# Altium footprint library custom-case.PcbLib: 168 footprints (part 8 of 11)
Each footprint in its own frame and in the unit in brackets; x right, y up, seen from the top. Pads: shape width x height; smd on the part's side, far side on the other; paste and mask are expansions set on the pad; w line width, h text height; cw(c..) or ccw(c..) is an arc to the next point about the centre after c.
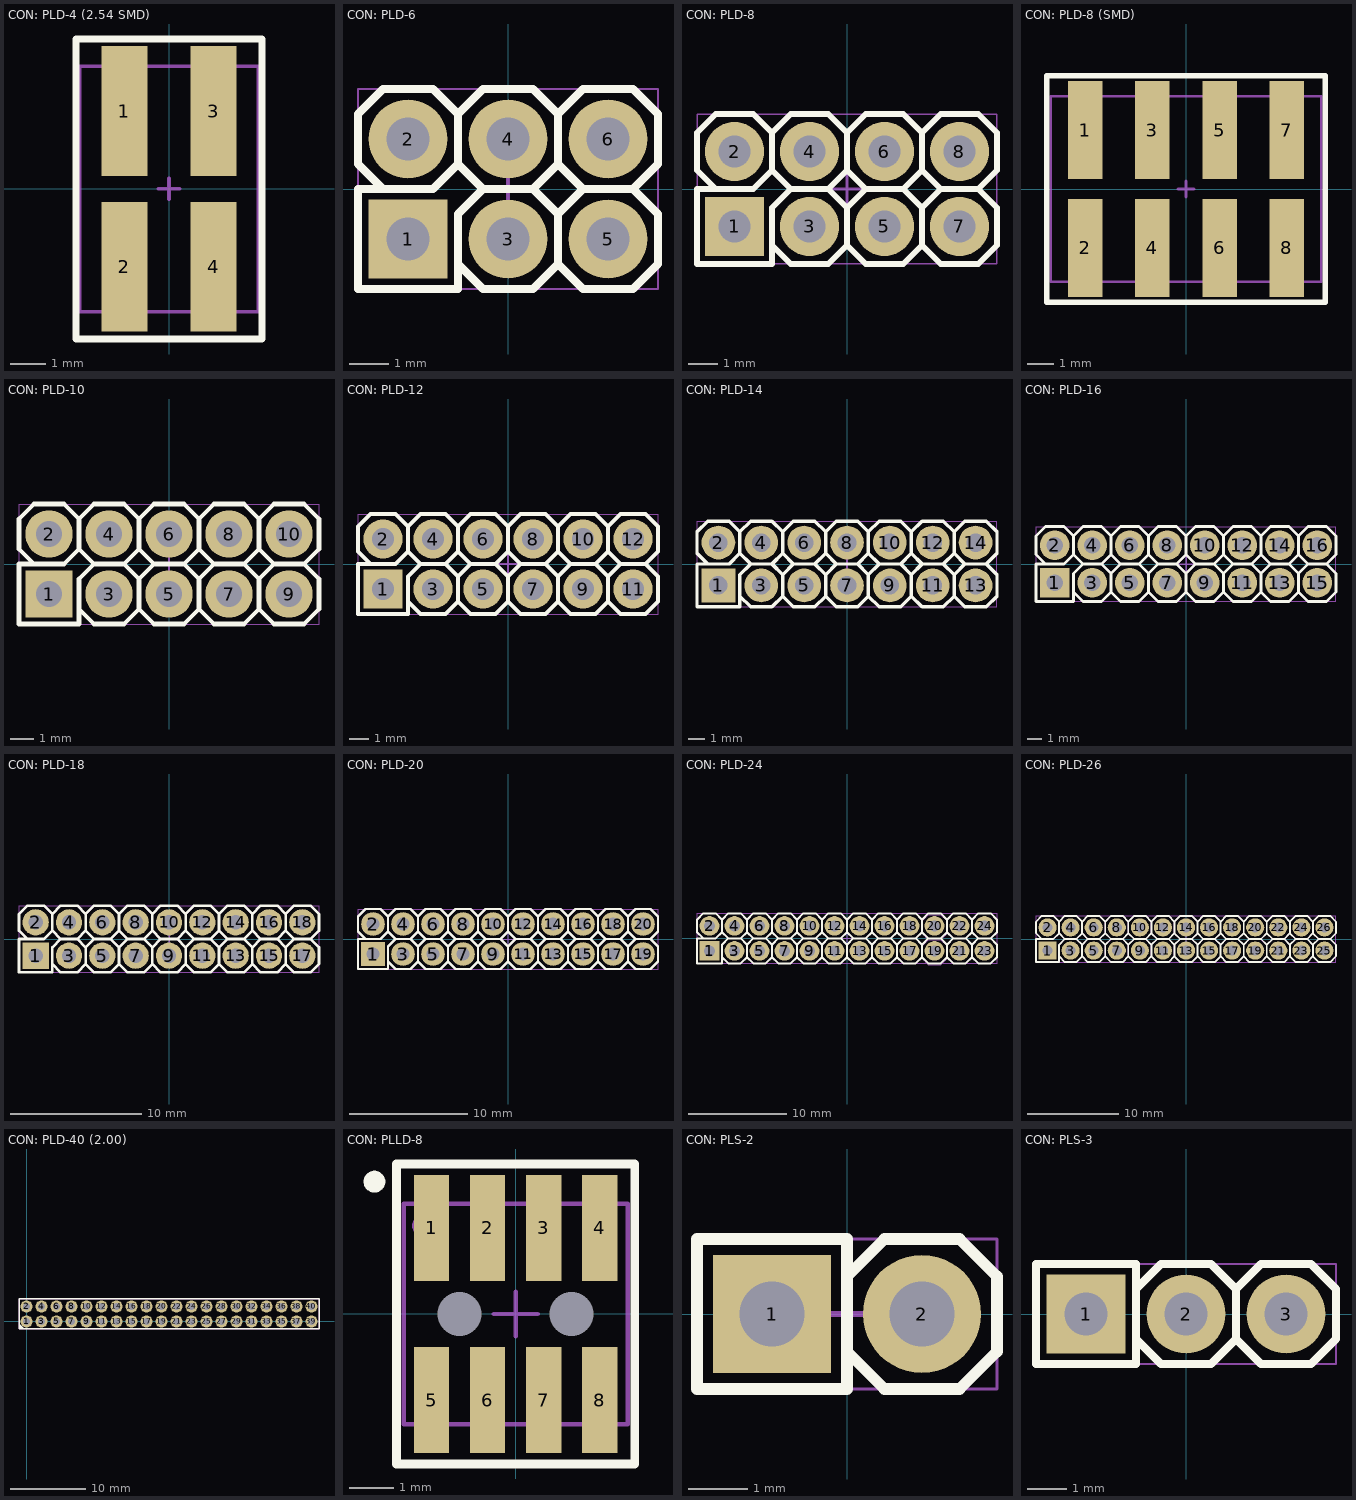
[diagram p7: the footprints below, top view; thin cyan lines are the x and y axes]

## CON: PLD-4 (2.54 SMD) [mm]
pads (4):
  rect 1.3x3.7 smd: 1(-1.27,2.22) 2(-1.27,-2.22) 3(1.27,2.22) 4(1.27,-2.22)
Top Overlay:
  lines w0.2: -2.65,-4.275 2.65,-4.275 2.65,4.275 -2.65,4.275 -2.65,-4.275
Top Assy:
  lines w0.1: -2.55,-3.5 -2.55,3.5 2.55,3.5 2.55,-3.5 -2.55,-3.5
Size Area:
  lines w0.1: -0.3,0 0.3,0 ; 0,-0.3 0,0.3 ; -2.65,-4.278 -2.65,4.275 2.65,4.275 2.65,-4.253 -2.65,-4.278
3D body "015912040-1.STEP": height 9.64, standoff -0.01, extent -2.54,-3.492 2.54,3.493

## CON: PLD-6 [mm]
height 10
pads (6):
  rect 2x2 hole 1.1: 1(-2.54,-1.27)
  round 2 hole 1.1: 2(-2.54,1.27) 3(0,-1.27) 4(0,1.27) 5(2.54,-1.27) 6(2.54,1.27)
Top Overlay:
  lines w0.2: -3.175,0 -3.81,0.635 -3.81,1.905 -3.175,2.54 ; -1.27,-1.905 -0.635,-2.54 0.635,-2.54 1.27,-1.905 ; -3.175,2.54 -1.905,2.54 ; -3.175,2.54 -1.905,2.54 ; -3.175,2.54 -1.905,2.54 ; -1.905,2.54 -1.27,1.905 ; -1.27,0.635 -1.27,1.905 ; -1.27,0.635 -1.905,0 -3.81,0 -3.81,-2.54 -1.27,-2.54 -1.27,-0.635 -0.635,0 ; -1.27,0.635 -0.635,0 ; -1.27,1.905 -0.635,2.54 ; -0.635,0 0.635,0 ; -0.635,2.54 0.635,2.54 ; -0.635,2.54 0.635,2.54 ; 0.635,0 1.27,0.635 ; 0.635,0 1.27,-0.635 ; 0.635,2.54 1.27,1.905 ; 1.27,-1.905 1.905,-2.54 3.175,-2.54 3.81,-1.905 3.81,-0.635 3.175,0 ; 1.27,-1.905 1.27,-0.635 ; 1.27,-0.635 1.905,0 ; 1.27,0.635 1.27,1.905 ; 1.27,0.635 1.905,0 ; 1.27,1.905 1.905,2.54 ; 1.905,0 3.175,0 ; 1.905,2.54 3.175,2.54 ; 1.905,2.54 3.175,2.54 ; 3.175,0 3.81,0.635 3.81,1.905 3.175,2.54
Top Assy:
  lines w0.1: -3.175,0 -3.81,0.635 -3.81,1.905 -3.175,2.54 -1.905,2.54 -1.27,1.905 -0.635,2.54 0.635,2.54 1.27,1.905 ; -1.27,-1.905 -0.635,-2.54 0.635,-2.54 1.27,-1.905 ; -0.635,0 0.635,0 ; -0.635,0 -1.27,0.635 -1.905,0 -3.81,0 -3.81,-2.54 -1.27,-2.54 -1.27,-0.635 -0.635,0 ; 0.635,0 1.27,0.635 ; 0.635,0 1.27,-0.635 ; 1.27,-1.905 1.905,-2.54 3.175,-2.54 3.81,-1.905 3.81,-0.635 3.175,0 ; 1.27,-1.905 1.27,-0.635 ; 1.27,-0.635 1.905,0 ; 1.27,0.635 1.905,0 ; 1.27,0.635 1.27,1.905 ; 1.27,1.905 1.905,2.54 3.175,2.54 3.81,1.905 3.81,0.635 3.175,0 ; 1.905,0 3.175,0
Size Area:
  lines w0.05: -3.81,-2.54 3.81,-2.54 3.81,2.54 -3.81,2.54 -3.81,-2.54
  lines w0.1: -0.5,0 0.5,0 ; 0,-0.5 0,0.5
3D body "PLD-6.STEP": height 8.54, standoff -3, extent -3.81,-2.54 3.81,2.54

## CON: PLD-8 [mm] "PLD-40 8 pin header"
height 10
pads (8):
  rect 2x2 hole 1.1: 1(-3.81,-1.27)
  round 2 hole 1.1: 2(-3.81,1.27) 3(-1.27,-1.27) 4(-1.27,1.27) 5(1.27,-1.27) 6(1.27,1.27) 7(3.81,-1.27) 8(3.81,1.27)
Top Overlay:
  lines w0.2: -4.445,0 -5.08,0.635 -5.08,1.905 -4.445,2.54 ; -2.54,-1.905 -1.905,-2.54 -0.635,-2.54 0,-1.905 ; -4.445,2.54 -3.175,2.54 ; -4.445,2.54 -3.175,2.54 ; -3.175,2.54 -2.54,1.905 ; -2.54,0.635 -1.905,0 ; -2.54,0.635 -3.175,0 -5.08,0 -5.08,-2.54 -2.54,-2.54 -2.54,-0.635 -1.905,0 ; -2.54,0.635 -2.54,1.905 ; -2.54,1.905 -1.905,2.54 ; -1.905,0 -0.635,0 ; -1.905,2.54 -0.635,2.54 ; -1.905,2.54 -0.635,2.54 ; -0.635,0 0,0.635 ; -0.635,0 0,-0.635 ; -0.635,2.54 0,1.905 ; 0,-1.905 0.635,-2.54 1.905,-2.54 2.54,-1.905 ; 0,-1.905 0,-0.635 ; 0,-0.635 0.635,0 ; 0,0.635 0,1.905 ; 0,0.635 0.635,0 ; 0,1.905 0.635,2.54 ; 0.635,0 1.905,0 ; 0.635,2.54 1.905,2.54 ; 0.635,2.54 1.905,2.54 ; 1.905,0 2.54,0.635 ; 1.905,0 2.54,-0.635 ; 1.905,2.54 2.54,1.905 ; 2.54,-1.905 3.175,-2.54 4.445,-2.54 5.08,-1.905 5.08,-0.635 4.445,0 ; 2.54,-1.905 2.54,-0.635 ; 2.54,-0.635 3.175,0 ; 2.54,0.635 2.54,1.905 ; 2.54,0.635 3.175,0 ; 2.54,1.905 3.175,2.54 ; 3.175,0 4.445,0 ; 3.175,2.54 4.445,2.54 ; 3.175,2.54 4.445,2.54 ; 4.445,0 5.08,0.635 5.08,1.905 4.445,2.54
Top Assy:
  lines w0.1: -4.445,0 -5.08,0.635 -5.08,1.905 -4.445,2.54 -3.175,2.54 -2.54,1.905 -1.905,2.54 -0.635,2.54 0,1.905 ; -2.54,-1.905 -1.905,-2.54 -0.635,-2.54 0,-1.905 ; -1.905,0 -2.54,-0.635 -2.54,-2.54 -5.08,-2.54 -5.08,0 -3.175,0 -2.54,0.635 -1.905,0 ; -1.905,0 -0.635,0 ; -0.635,0 0,-0.635 ; -0.635,0 0,0.635 ; 0,-1.905 0.635,-2.54 1.905,-2.54 2.54,-1.905 ; 0,-1.905 0,-0.635 ; 0,-0.635 0.635,0 ; 0,0.635 0.635,0 ; 0,0.635 0,1.905 ; 0,1.905 0.635,2.54 1.905,2.54 2.54,1.905 ; 0.635,0 1.905,0 ; 1.905,0 2.54,-0.635 ; 1.905,0 2.54,0.635 ; 2.54,-1.905 3.175,-2.54 4.445,-2.54 5.08,-1.905 5.08,-0.635 4.445,0 ; 2.54,-1.905 2.54,-0.635 ; 2.54,-0.635 3.175,0 ; 2.54,0.635 3.175,0 ; 2.54,0.635 2.54,1.905 ; 2.54,1.905 3.175,2.54 4.445,2.54 5.08,1.905 5.08,0.635 4.445,0 ; 3.175,0 4.445,0
Size Area:
  lines w0.05: -5.08,-2.54 -5.08,2.54 5.08,2.54 5.08,-2.54 -5.08,-2.54
  lines w0.1: -0.5,0 0.5,0 ; 0,-0.5 0,0.5
3D body "PLD-8.STEP": height 8.54, standoff -3, extent -5.132,-2.546 5.028,2.534

## CON: PLD-8 (SMD) [mm]
pads (8):
  rect 1.3x3.7 smd: 1(-3.81,2.22) 2(-3.81,-2.22) 3(-1.27,2.22) 4(-1.27,-2.22) 5(1.27,2.22) 6(1.27,-2.22) 7(3.81,2.22) 8(3.81,-2.22)
Top Overlay:
  lines w0.2: -5.25,-4.275 5.25,-4.275 5.25,4.275 -5.25,4.275 -5.25,-4.275
3D model:
  lines w0.1: -5.1,-3.5 5.1,-3.5 5.1,3.5 -5.1,3.5 -5.1,-3.5
Size Area:
  lines w0.1: -0.3,0 0.3,0 ; 0,-0.3 0,0.3 ; -5.25,-4.275 5.25,-4.275 5.25,4.275 -5.25,4.275 -5.25,-4.275
3D body "015910080-1.STEP": height 9.64, standoff -0.01, extent -5.08,-3.493 5.08,3.493

## CON: PLD-10 [mm]
height 10
pads (10):
  rect 2x2 hole 1.1: 1(-5.08,-1.27)
  round 2 hole 1.1: 2(-5.08,1.27) 3(-2.54,-1.27) 4(-2.54,1.27) 5(0,-1.27) 6(0,1.27) 7(2.54,-1.27) 8(2.54,1.27) 9(5.08,-1.27) 10(5.08,1.27)
Top Overlay:
  lines w0.2: -5.715,0 -6.35,0.635 -6.35,1.905 -5.715,2.54 ; -3.81,-1.905 -3.175,-2.54 -1.905,-2.54 -1.27,-1.905 ; -5.715,2.54 -4.445,2.54 ; -5.715,2.54 -4.445,2.54 ; -4.445,2.54 -3.81,1.905 ; -3.81,0.635 -3.175,0 ; -3.81,0.635 -4.445,0 -6.35,0 -6.35,-2.54 -3.81,-2.54 -3.81,-0.635 -3.175,0 ; -3.81,0.635 -3.81,1.905 ; -3.81,1.905 -3.175,2.54 ; -3.175,0 -1.905,0 ; -3.175,2.54 -1.905,2.54 ; -3.175,2.54 -1.905,2.54 ; -1.905,0 -1.27,0.635 ; -1.905,0 -1.27,-0.635 ; -1.905,2.54 -1.27,1.905 ; -1.27,-1.905 -1.27,-0.635 ; -1.27,-1.905 -0.635,-2.54 0.635,-2.54 1.27,-1.905 ; -1.27,-0.635 -0.635,0 ; -1.27,0.635 -0.635,0 ; -1.27,0.635 -1.27,1.905 ; -1.27,1.905 -0.635,2.54 ; -0.635,0 0.635,0 ; -0.635,2.54 0.635,2.54 ; -0.635,2.54 0.635,2.54 ; 0.635,0 1.27,0.635 ; 0.635,0 1.27,-0.635 ; 0.635,2.54 1.27,1.905 ; 1.27,-1.905 1.27,-0.635 ; 1.27,-1.905 1.905,-2.54 3.175,-2.54 3.81,-1.905 ; 1.27,-0.635 1.905,0 ; 1.27,0.635 1.905,0 ; 1.27,0.635 1.27,1.905 ; 1.27,1.905 1.905,2.54 ; 1.905,0 3.175,0 ; 1.905,2.54 3.175,2.54 ; 1.905,2.54 3.175,2.54 ; 3.175,0 3.81,0.635 ; 3.175,0 3.81,-0.635 ; 3.175,2.54 3.81,1.905 ; 3.81,-1.905 4.445,-2.54 5.715,-2.54 6.35,-1.905 6.35,-0.635 5.715,0 ; 3.81,-1.905 3.81,-0.635 ; 3.81,-0.635 4.445,0 ; 3.81,0.635 3.81,1.905 ; 3.81,0.635 4.445,0 ; 3.81,1.905 4.445,2.54 ; 4.445,0 5.715,0 ; 4.445,2.54 5.715,2.54 ; 4.445,2.54 5.715,2.54 ; 5.715,0 6.35,0.635 6.35,1.905 5.715,2.54
Top Assy:
  lines w0.1: -5.715,0 -6.35,0.635 -6.35,1.905 -5.715,2.54 -4.445,2.54 -3.81,1.905 -3.175,2.54 -1.905,2.54 -1.27,1.905 ; -3.81,-1.905 -3.175,-2.54 -1.905,-2.54 -1.27,-1.905 ; -3.175,0 -3.81,-0.635 -3.81,-2.54 -6.35,-2.54 -6.35,0 -4.445,0 -3.81,0.635 -3.175,0 ; -3.175,0 -1.905,0 ; -1.905,0 -1.27,-0.635 ; -1.905,0 -1.27,0.635 ; -1.27,-1.905 -1.27,-0.635 ; -1.27,-1.905 -0.635,-2.54 0.635,-2.54 1.27,-1.905 ; -1.27,-0.635 -0.635,0 ; -1.27,0.635 -1.27,1.905 ; -1.27,0.635 -0.635,0 ; -1.27,1.905 -0.635,2.54 0.635,2.54 1.27,1.905 ; -0.635,0 0.635,0 ; 0.635,0 1.27,-0.635 ; 0.635,0 1.27,0.635 ; 1.27,-1.905 1.27,-0.635 ; 1.27,-1.905 1.905,-2.54 3.175,-2.54 3.81,-1.905 ; 1.27,-0.635 1.905,0 ; 1.27,0.635 1.27,1.905 ; 1.27,0.635 1.905,0 ; 1.27,1.905 1.905,2.54 3.175,2.54 3.81,1.905 ; 1.905,0 3.175,0 ; 3.175,0 3.81,-0.635 ; 3.175,0 3.81,0.635 ; 3.81,-1.905 3.81,-0.635 ; 3.81,-1.905 4.445,-2.54 5.715,-2.54 6.35,-1.905 6.35,-0.635 5.715,0 ; 3.81,-0.635 4.445,0 ; 3.81,0.635 3.81,1.905 ; 3.81,0.635 4.445,0 ; 3.81,1.905 4.445,2.54 5.715,2.54 6.35,1.905 6.35,0.635 5.715,0 ; 4.445,0 5.715,0
Size Area:
  lines w0.05: -6.35,-2.54 -6.35,2.54 6.35,2.54 6.35,-2.54 -6.35,-2.54
  lines w0.1: -0.5,0 0.5,0 ; 0,-0.5 0,0.5
3D body "PLD-10.STEP": height 8.54, standoff -3, extent -6.35,-2.54 6.35,2.54

## CON: PLD-12 [mm]
height 10
pads (12):
  rect 2x2 hole 1.1: 1(-6.35,-1.27)
  round 2 hole 1.1: 2(-6.35,1.27) 3(-3.81,-1.27) 4(-3.81,1.27) 5(-1.27,-1.27) 6(-1.27,1.27) 7(1.27,-1.27) 8(1.27,1.27) 9(3.81,-1.27) 10(3.81,1.27) 11(6.35,-1.27) 12(6.35,1.27)
Top Overlay:
  lines w0.2: -5.08,-1.905 -4.445,-2.54 -3.175,-2.54 -2.54,-1.905 ; -7.62,0.635 -6.985,0 -7.62,0.635 ; -7.62,0.635 -7.62,1.905 -6.985,2.54 ; -6.985,2.54 -5.715,2.54 ; -6.985,2.54 -5.715,2.54 ; -5.715,0 -5.08,0.635 ; -5.715,0 -7.62,0 -7.62,-2.54 -5.08,-2.54 -5.08,-0.635 -4.445,0 ; -5.715,0 -5.08,0.635 ; -5.715,2.54 -5.08,1.905 ; -5.08,0.635 -4.445,0 ; -5.08,0.635 -5.08,1.905 ; -5.08,0.635 -4.445,0 ; -5.08,1.905 -4.445,2.54 ; -4.445,0 -3.175,0 ; -4.445,2.54 -3.175,2.54 ; -4.445,2.54 -3.175,2.54 ; -3.175,0 -2.54,0.635 ; -3.175,0 -2.54,-0.635 ; -3.175,2.54 -2.54,1.905 ; -2.54,-1.905 -1.905,-2.54 -0.635,-2.54 0,-1.905 ; -2.54,-1.905 -2.54,-0.635 ; -2.54,-0.635 -1.905,0 ; -2.54,0.635 -2.54,1.905 ; -2.54,0.635 -1.905,0 ; -2.54,1.905 -1.905,2.54 ; -1.905,0 -0.635,0 ; -1.905,2.54 -0.635,2.54 ; -1.905,2.54 -0.635,2.54 ; -0.635,0 0,0.635 ; -0.635,0 0,-0.635 ; -0.635,2.54 0,1.905 ; 0,-1.905 0.635,-2.54 1.905,-2.54 2.54,-1.905 ; 0,-1.905 0,-0.635 ; 0,-0.635 0.635,0 ; 0,0.635 0,1.905 ; 0,0.635 0.635,0 ; 0,1.905 0.635,2.54 ; 0.635,0 1.905,0 ; 0.635,2.54 1.905,2.54 ; 0.635,2.54 1.905,2.54 ; 1.905,0 2.54,0.635 ; 1.905,0 2.54,-0.635 ; 1.905,2.54 2.54,1.905 ; 2.54,-1.905 3.175,-2.54 4.445,-2.54 5.08,-1.905 ; 2.54,-1.905 2.54,-0.635 ; 2.54,-0.635 3.175,0 ; 2.54,0.635 2.54,1.905 ; 2.54,0.635 3.175,0 ; 2.54,1.905 3.175,2.54 ; 3.175,0 4.445,0 ; 3.175,2.54 4.445,2.54 ; 3.175,2.54 4.445,2.54 ; 4.445,0 5.08,0.635 ; 4.445,0 5.08,-0.635 ; 4.445,2.54 5.08,1.905 ; 5.08,-1.905 5.715,-2.54 6.985,-2.54 7.62,-1.905 7.62,-0.635 6.985,0 ; 5.08,-1.905 5.08,-0.635 ; 5.08,-0.635 5.715,0 ; 5.08,0.635 5.08,1.905 ; 5.08,0.635 5.715,0 ; 5.08,1.905 5.715,2.54 ; 5.715,0 6.985,0 ; 5.715,2.54 6.985,2.54 ; 5.715,2.54 6.985,2.54 ; 6.985,0 7.62,0.635 7.62,1.905 6.985,2.54
Top Assy:
  lines w0.1: -6.985,0 -7.62,0.635 -7.62,1.905 -6.985,2.54 -5.715,2.54 -5.08,1.905 -4.445,2.54 -3.175,2.54 -2.54,1.905 ; -5.08,-1.905 -4.445,-2.54 -3.175,-2.54 -2.54,-1.905 ; -4.445,0 -5.08,0.635 -5.715,0 -7.62,0 -7.62,-2.54 -5.08,-2.54 -5.08,-0.635 -4.445,0 ; -4.445,0 -3.175,0 ; -3.175,0 -2.54,0.635 ; -3.175,0 -2.54,-0.635 ; -2.54,-1.905 -2.54,-0.635 ; -2.54,-1.905 -1.905,-2.54 -0.635,-2.54 0,-1.905 ; -2.54,-0.635 -1.905,0 ; -2.54,0.635 -2.54,1.905 ; -2.54,0.635 -1.905,0 ; -2.54,1.905 -1.905,2.54 -0.635,2.54 0,1.905 ; -1.905,0 -0.635,0 ; -0.635,0 0,0.635 ; -0.635,0 0,-0.635 ; 0,-1.905 0,-0.635 ; 0,-1.905 0.635,-2.54 1.905,-2.54 2.54,-1.905 ; 0,-0.635 0.635,0 ; 0,0.635 0,1.905 ; 0,0.635 0.635,0 ; 0,1.905 0.635,2.54 1.905,2.54 2.54,1.905 ; 0.635,0 1.905,0 ; 1.905,0 2.54,0.635 ; 1.905,0 2.54,-0.635 ; 2.54,-1.905 2.54,-0.635 ; 2.54,-1.905 3.175,-2.54 4.445,-2.54 5.08,-1.905 ; 2.54,-0.635 3.175,0 ; 2.54,0.635 2.54,1.905 ; 2.54,0.635 3.175,0 ; 2.54,1.905 3.175,2.54 4.445,2.54 5.08,1.905 ; 3.175,0 4.445,0 ; 4.445,0 5.08,0.635 ; 4.445,0 5.08,-0.635 ; 5.08,-1.905 5.08,-0.635 ; 5.08,-1.905 5.715,-2.54 6.985,-2.54 7.62,-1.905 7.62,-0.635 6.985,0 ; 5.08,-0.635 5.715,0 ; 5.08,0.635 5.08,1.905 ; 5.08,0.635 5.715,0 ; 5.08,1.905 5.715,2.54 6.985,2.54 7.62,1.905 7.62,0.635 6.985,0 ; 5.715,0 6.985,0
Size Area:
  lines w0.05: -7.62,-2.54 -7.62,2.54 7.62,2.54 7.62,-2.54 -7.62,-2.54
  lines w0.1: -0.5,0 0.5,0 ; 0,-0.5 0,0.5
3D body "PLD-12.STEP": height 8.54, standoff -3, extent -7.62,-2.54 7.62,2.54

## CON: PLD-14 [mm]
height 10
pads (14):
  rect 2x2 hole 1.1: 1(-7.62,-1.27)
  round 2 hole 1.1: 2(-7.62,1.27) 3(-5.08,-1.27) 4(-5.08,1.27) 5(-2.54,-1.27) 6(-2.54,1.27) 7(0,-1.27) 8(0,1.27) 9(2.54,-1.27) 10(2.54,1.27) 11(5.08,-1.27) 12(5.08,1.27) 13(7.62,-1.27) 14(7.62,1.27)
Top Overlay:
  lines w0.2: -8.255,0 -8.89,0.635 -8.89,1.905 -8.255,2.54 ; -6.35,-1.905 -5.715,-2.54 -4.445,-2.54 -3.81,-1.905 ; -8.255,2.54 -6.985,2.54 ; -8.255,2.54 -6.985,2.54 ; -6.985,2.54 -6.35,1.905 ; -6.35,0.635 -6.35,1.905 ; -6.35,0.635 -6.985,0 -8.89,0 -8.89,-2.54 -6.35,-2.54 -6.35,-0.635 -5.715,0 ; -6.35,0.635 -5.715,0 ; -6.35,1.905 -5.715,2.54 ; -5.715,0 -4.445,0 ; -5.715,2.54 -4.445,2.54 ; -5.715,2.54 -4.445,2.54 ; -4.445,0 -3.81,-0.635 ; -4.445,0 -3.81,0.635 ; -4.445,2.54 -3.81,1.905 ; -3.81,-1.905 -3.81,-0.635 ; -3.81,-1.905 -3.175,-2.54 -1.905,-2.54 -1.27,-1.905 ; -3.81,-0.635 -3.175,0 ; -3.81,0.635 -3.175,0 ; -3.81,0.635 -3.81,1.905 ; -3.81,1.905 -3.175,2.54 ; -3.175,0 -1.905,0 ; -3.175,2.54 -1.905,2.54 ; -3.175,2.54 -1.905,2.54 ; -1.905,0 -1.27,-0.635 ; -1.905,0 -1.27,0.635 ; -1.905,2.54 -1.27,1.905 ; -1.27,-1.905 -1.27,-0.635 ; -1.27,-1.905 -0.635,-2.54 0.635,-2.54 1.27,-1.905 ; -1.27,-0.635 -0.635,0 ; -1.27,0.635 -0.635,0 ; -1.27,0.635 -1.27,1.905 ; -1.27,1.905 -0.635,2.54 ; -0.635,0 0.635,0 ; -0.635,2.54 0.635,2.54 ; -0.635,2.54 0.635,2.54 ; 0.635,0 1.27,-0.635 ; 0.635,0 1.27,0.635 ; 0.635,2.54 1.27,1.905 ; 1.27,-1.905 1.27,-0.635 ; 1.27,-1.905 1.905,-2.54 3.175,-2.54 3.81,-1.905 ; 1.27,-0.635 1.905,0 ; 1.27,0.635 1.905,0 ; 1.27,0.635 1.27,1.905 ; 1.27,1.905 1.905,2.54 ; 1.905,0 3.175,0 ; 1.905,2.54 3.175,2.54 ; 1.905,2.54 3.175,2.54 ; 3.175,0 3.81,-0.635 ; 3.175,0 3.81,0.635 ; 3.175,2.54 3.81,1.905 ; 3.81,-1.905 3.81,-0.635 ; 3.81,-1.905 4.445,-2.54 5.715,-2.54 6.35,-1.905 ; 3.81,-0.635 4.445,0 ; 3.81,0.635 4.445,0 ; 3.81,0.635 3.81,1.905 ; 3.81,1.905 4.445,2.54 ; 4.445,0 5.715,0 ; 4.445,2.54 5.715,2.54 ; 4.445,2.54 5.715,2.54 ; 5.715,0 6.35,-0.635 ; 5.715,0 6.35,0.635 ; 5.715,2.54 6.35,1.905 ; 6.35,-1.905 6.35,-0.635 ; 6.35,-1.905 6.985,-2.54 8.255,-2.54 8.89,-1.905 8.89,-0.635 8.255,0 ; 6.35,-0.635 6.985,0 ; 6.35,0.635 6.985,0 ; 6.35,0.635 6.35,1.905 ; 6.35,1.905 6.985,2.54 ; 6.985,0 8.255,0 ; 6.985,2.54 8.255,2.54 ; 6.985,2.54 8.255,2.54 ; 8.255,0 8.89,0.635 8.89,1.905 8.255,2.54
Top Assy:
  lines w0.1: -8.255,0 -8.89,0.635 -8.89,1.905 -8.255,2.54 -6.985,2.54 -6.35,1.905 -5.715,2.54 -4.445,2.54 -3.81,1.905 ; -6.35,-1.905 -5.715,-2.54 -4.445,-2.54 -3.81,-1.905 ; -5.715,0 -4.445,0 ; -5.715,0 -6.35,0.635 -6.985,0 -8.89,0 -8.89,-2.54 -6.35,-2.54 -6.35,-0.635 -5.715,0 ; -4.445,0 -3.81,0.635 ; -4.445,0 -3.81,-0.635 ; -3.81,-1.905 -3.81,-0.635 ; -3.81,-1.905 -3.175,-2.54 -1.905,-2.54 -1.27,-1.905 ; -3.81,-0.635 -3.175,0 ; -3.81,0.635 -3.81,1.905 ; -3.81,0.635 -3.175,0 ; -3.81,1.905 -3.175,2.54 -1.905,2.54 -1.27,1.905 ; -3.175,0 -1.905,0 ; -1.905,0 -1.27,0.635 ; -1.905,0 -1.27,-0.635 ; -1.27,-1.905 -1.27,-0.635 ; -1.27,-1.905 -0.635,-2.54 0.635,-2.54 1.27,-1.905 ; -1.27,-0.635 -0.635,0 ; -1.27,0.635 -1.27,1.905 ; -1.27,0.635 -0.635,0 ; -1.27,1.905 -0.635,2.54 0.635,2.54 1.27,1.905 ; -0.635,0 0.635,0 ; 0.635,0 1.27,0.635 ; 0.635,0 1.27,-0.635 ; 1.27,-1.905 1.27,-0.635 ; 1.27,-1.905 1.905,-2.54 3.175,-2.54 3.81,-1.905 ; 1.27,-0.635 1.905,0 ; 1.27,0.635 1.27,1.905 ; 1.27,0.635 1.905,0 ; 1.27,1.905 1.905,2.54 3.175,2.54 3.81,1.905 ; 1.905,0 3.175,0 ; 3.175,0 3.81,0.635 ; 3.175,0 3.81,-0.635 ; 3.81,-1.905 3.81,-0.635 ; 3.81,-1.905 4.445,-2.54 5.715,-2.54 6.35,-1.905 ; 3.81,-0.635 4.445,0 ; 3.81,0.635 3.81,1.905 ; 3.81,0.635 4.445,0 ; 3.81,1.905 4.445,2.54 5.715,2.54 6.35,1.905 ; 4.445,0 5.715,0 ; 5.715,0 6.35,0.635 ; 5.715,0 6.35,-0.635 ; 6.35,-1.905 6.35,-0.635 ; 6.35,-1.905 6.985,-2.54 8.255,-2.54 8.89,-1.905 8.89,-0.635 8.255,0 ; 6.35,-0.635 6.985,0 ; 6.35,0.635 6.35,1.905 ; 6.35,0.635 6.985,0 ; 6.35,1.905 6.985,2.54 8.255,2.54 8.89,1.905 8.89,0.635 8.255,0 ; 6.985,0 8.255,0
Size Area:
  lines w0.05: -8.89,-2.54 8.89,-2.54 8.89,2.54 -8.89,2.54 -8.89,-2.54
  lines w0.1: -0.5,0 0.5,0 ; 0,-0.5 0,0.5
3D body "PLD-14.STEP": height 8.54, standoff -3, extent -8.942,-2.546 8.838,2.534

## CON: PLD-16 [mm]
height 10
pads (16):
  rect 2x2 hole 1.1: 1(-8.89,-1.27)
  round 2 hole 1.1: 2(-8.89,1.27) 3(-6.35,-1.27) 4(-6.35,1.27) 5(-3.81,-1.27) 6(-3.81,1.27) 7(-1.27,-1.27) 8(-1.27,1.27) 9(1.27,-1.27) 10(1.27,1.27) 11(3.81,-1.27) 12(3.81,1.27) 13(6.35,-1.27) 14(6.35,1.27) 15(8.89,-1.27) 16(8.89,1.27)
Top Overlay:
  lines w0.2: -9.525,0 -10.16,0.635 -10.16,1.905 -9.525,2.54 ; -7.62,-1.905 -6.985,-2.54 -5.715,-2.54 -5.08,-1.905 ; -9.525,2.54 -8.255,2.54 ; -9.525,2.54 -8.255,2.54 ; -8.255,2.54 -7.62,1.905 ; -7.62,0.635 -6.985,0 ; -7.62,0.635 -8.255,0 -10.16,0 -10.16,-2.54 -7.62,-2.54 -7.62,-0.635 -6.985,0 ; -7.62,0.635 -7.62,1.905 ; -7.62,1.905 -6.985,2.54 ; -6.985,0 -5.715,0 ; -6.985,2.54 -5.715,2.54 ; -6.985,2.54 -5.715,2.54 ; -5.715,0 -5.08,-0.635 ; -5.715,0 -5.08,0.635 ; -5.715,2.54 -5.08,1.905 ; -5.08,-1.905 -5.08,-0.635 ; -5.08,-1.905 -4.445,-2.54 -3.175,-2.54 -2.54,-1.905 ; -5.08,-0.635 -4.445,0 ; -5.08,0.635 -4.445,0 ; -5.08,0.635 -5.08,1.905 ; -5.08,1.905 -4.445,2.54 ; -4.445,0 -3.175,0 ; -4.445,2.54 -3.175,2.54 ; -4.445,2.54 -3.175,2.54 ; -3.175,0 -2.54,-0.635 ; -3.175,0 -2.54,0.635 ; -3.175,2.54 -2.54,1.905 ; -2.54,-1.905 -2.54,-0.635 ; -2.54,-1.905 -1.905,-2.54 -0.635,-2.54 0,-1.905 ; -2.54,-0.635 -1.905,0 ; -2.54,0.635 -1.905,0 ; -2.54,0.635 -2.54,1.905 ; -2.54,1.905 -1.905,2.54 ; -1.905,0 -0.635,0 ; -1.905,2.54 -0.635,2.54 ; -1.905,2.54 -0.635,2.54 ; -0.635,0 0,-0.635 ; -0.635,0 0,0.635 ; -0.635,2.54 0,1.905 ; 0,-1.905 0,-0.635 ; 0,-1.905 0.635,-2.54 1.905,-2.54 2.54,-1.905 ; 0,-0.635 0.635,0 ; 0,0.635 0.635,0 ; 0,0.635 0,1.905 ; 0,1.905 0.635,2.54 ; 0.635,0 1.905,0 ; 0.635,2.54 1.905,2.54 ; 0.635,2.54 1.905,2.54 ; 1.905,0 2.54,-0.635 ; 1.905,0 2.54,0.635 ; 1.905,2.54 2.54,1.905 ; 2.54,-1.905 2.54,-0.635 ; 2.54,-1.905 3.175,-2.54 4.445,-2.54 5.08,-1.905 ; 2.54,-0.635 3.175,0 ; 2.54,0.635 3.175,0 ; 2.54,0.635 2.54,1.905 ; 2.54,1.905 3.175,2.54 ; 3.175,0 4.445,0 ; 3.175,2.54 4.445,2.54 ; 3.175,2.54 4.445,2.54 ; 4.445,0 5.08,-0.635 ; 4.445,0 5.08,0.635 ; 4.445,2.54 5.08,1.905 ; 5.08,-1.905 5.08,-0.635 ; 5.08,-1.905 5.715,-2.54 6.985,-2.54 7.62,-1.905 ; 5.08,-0.635 5.715,0 ; 5.08,0.635 5.715,0 ; 5.08,0.635 5.08,1.905 ; 5.08,1.905 5.715,2.54 ; 5.715,0 6.985,0 ; 5.715,2.54 6.985,2.54 ; 5.715,2.54 6.985,2.54 ; 6.985,0 7.62,-0.635 ; 6.985,0 7.62,0.635 ; 6.985,2.54 7.62,1.905 ; 7.62,-1.905 8.255,-2.54 9.525,-2.54 10.16,-1.905 10.16,-0.635 9.525,0 ; 7.62,-1.905 7.62,-0.635 ; 7.62,-0.635 8.255,0 ; 7.62,0.635 7.62,1.905 ; 7.62,0.635 8.255,0 ; 7.62,1.905 8.255,2.54 ; 8.255,0 9.525,0 ; 8.255,2.54 9.525,2.54 ; 8.255,2.54 9.525,2.54 ; 9.525,0 10.16,0.635 10.16,1.905 9.525,2.54
Top Assy:
  lines w0.1: -9.525,0 -10.16,0.635 -10.16,1.905 -9.525,2.54 -8.255,2.54 -7.62,1.905 -6.985,2.54 -5.715,2.54 -5.08,1.905 ; -7.62,-1.905 -6.985,-2.54 -5.715,-2.54 -5.08,-1.905 ; -6.985,0 -5.715,0 ; -6.985,0 -7.62,-0.635 -7.62,-2.54 -10.16,-2.54 -10.16,0 -8.255,0 -7.62,0.635 -6.985,0 ; -5.715,0 -5.08,-0.635 ; -5.715,0 -5.08,0.635 ; -5.08,-1.905 -4.445,-2.54 -3.175,-2.54 -2.54,-1.905 ; -5.08,-1.905 -5.08,-0.635 ; -5.08,-0.635 -4.445,0 ; -5.08,0.635 -4.445,0 ; -5.08,0.635 -5.08,1.905 ; -5.08,1.905 -4.445,2.54 -3.175,2.54 -2.54,1.905 ; -4.445,0 -3.175,0 ; -3.175,0 -2.54,-0.635 ; -3.175,0 -2.54,0.635 ; -2.54,-1.905 -1.905,-2.54 -0.635,-2.54 0,-1.905 ; -2.54,-1.905 -2.54,-0.635 ; -2.54,-0.635 -1.905,0 ; -2.54,0.635 -1.905,0 ; -2.54,0.635 -2.54,1.905 ; -2.54,1.905 -1.905,2.54 -0.635,2.54 0,1.905 ; -1.905,0 -0.635,0 ; -0.635,0 0,-0.635 ; -0.635,0 0,0.635 ; 0,-1.905 0.635,-2.54 ; 0,-1.905 0.635,-2.54 ; 0,-1.905 0,-0.635 ; 0,-0.635 0.635,0 ; 0,-0.635 0.635,0 ; 0,0.635 0.635,0 ; 0,0.635 0.635,0 ; 0,0.635 0,1.905 ; 0,1.905 0.635,2.54 ; 0,1.905 0.635,2.54 ; 0.635,-2.54 1.905,-2.54 ; 0.635,-2.54 1.905,-2.54 ; 0.635,0 1.905,0 ; 0.635,0 1.905,0 ; 0.635,2.54 1.905,2.54 ; 0.635,2.54 1.905,2.54 ; 1.905,-2.54 2.54,-1.905 ; 1.905,-2.54 2.54,-1.905 ; 1.905,0 2.54,-0.635 ; 1.905,0 2.54,0.635 ; 1.905,0 2.54,-0.635 ; 1.905,0 2.54,0.635 ; 1.905,2.54 2.54,1.905 ; 1.905,2.54 2.54,1.905 ; 2.54,-1.905 3.175,-2.54 4.445,-2.54 5.08,-1.905 ; 2.54,-1.905 2.54,-0.635 ; 2.54,-1.905 2.54,-0.635 ; 2.54,-0.635 3.175,0 ; 2.54,0.635 3.175,0 ; 2.54,0.635 2.54,1.905 ; 2.54,0.635 2.54,1.905 ; 2.54,1.905 3.175,2.54 4.445,2.54 5.08,1.905 ; 3.175,0 4.445,0 ; 4.445,0 5.08,-0.635 ; 4.445,0 5.08,0.635 ; 5.08,-1.905 5.715,-2.54 6.985,-2.54 7.62,-1.905 ; 5.08,-1.905 5.08,-0.635 ; 5.08,-0.635 5.715,0 ; 5.08,0.635 5.715,0 ; 5.08,0.635 5.08,1.905 ; 5.08,1.905 5.715,2.54 6.985,2.54 7.62,1.905 ; 5.715,0 6.985,0 ; 6.985,0 7.62,-0.635 ; 6.985,0 7.62,0.635 ; 7.62,-1.905 8.255,-2.54 9.525,-2.54 10.16,-1.905 10.16,-0.635 9.525,0 ; 7.62,-1.905 7.62,-0.635 ; 7.62,-0.635 8.255,0 ; 7.62,0.635 8.255,0 ; 7.62,0.635 7.62,1.905 ; 7.62,1.905 8.255,2.54 9.525,2.54 10.16,1.905 10.16,0.635 9.525,0 ; 8.255,0 9.525,0
Size Area:
  lines w0.05: -10.16,-2.54 -10.16,2.54 10.16,2.54 10.16,-2.54 -10.16,-2.54
  lines w0.1: -0.5,0 0.5,0 ; 0,-0.5 0,0.5
3D body "PLD-16.STEP": height 8.54, standoff -3, extent -10.16,-2.413 10.16,2.667

## CON: PLD-18 [mm]
height 10
pads (18):
  rect 2x2 hole 1.1: 1(-10.16,-1.27)
  round 2 hole 1.1: 2(-10.16,1.27) 3(-7.62,-1.27) 4(-7.62,1.27) 5(-5.08,-1.27) 6(-5.08,1.27) 7(-2.54,-1.27) 8(-2.54,1.27) 9(0,-1.27) 10(0,1.27) 11(2.54,-1.27) 12(2.54,1.27) 13(5.08,-1.27) 14(5.08,1.27) 15(7.62,-1.27) 16(7.62,1.27) 17(10.16,-1.27) 18(10.16,1.27)
Top Overlay:
  lines w0.2: -10.795,0 -11.43,0.635 -11.43,1.905 -10.795,2.54 ; -8.89,-1.905 -8.255,-2.54 -6.985,-2.54 -6.35,-1.905 ; -10.795,2.54 -9.525,2.54 ; -10.795,2.54 -9.525,2.54 ; -9.525,2.54 -8.89,1.905 ; -8.89,0.635 -8.89,1.905 ; -8.89,0.635 -9.525,0 -11.43,0 -11.43,-2.54 -8.89,-2.54 -8.89,-0.635 -8.255,0 ; -8.89,0.635 -8.255,0 ; -8.89,1.905 -8.255,2.54 ; -8.255,0 -6.985,0 ; -8.255,2.54 -6.985,2.54 ; -8.255,2.54 -6.985,2.54 ; -6.985,0 -6.35,0.635 ; -6.985,0 -6.35,-0.635 ; -6.985,2.54 -6.35,1.905 ; -6.35,-1.905 -5.715,-2.54 -4.445,-2.54 -3.81,-1.905 ; -6.35,-1.905 -6.35,-0.635 ; -6.35,-0.635 -5.715,0 ; -6.35,0.635 -6.35,1.905 ; -6.35,0.635 -5.715,0 ; -6.35,1.905 -5.715,2.54 ; -5.715,0 -4.445,0 ; -5.715,2.54 -4.445,2.54 ; -5.715,2.54 -4.445,2.54 ; -4.445,0 -3.81,0.635 ; -4.445,0 -3.81,-0.635 ; -4.445,2.54 -3.81,1.905 ; -3.81,-1.905 -3.175,-2.54 -1.905,-2.54 -1.27,-1.905 ; -3.81,-1.905 -3.81,-0.635 ; -3.81,-0.635 -3.175,0 ; -3.81,0.635 -3.81,1.905 ; -3.81,0.635 -3.175,0 ; -3.81,1.905 -3.175,2.54 ; -3.175,0 -1.905,0 ; -3.175,2.54 -1.905,2.54 ; -3.175,2.54 -1.905,2.54 ; -1.905,0 -1.27,0.635 ; -1.905,0 -1.27,-0.635 ; -1.905,2.54 -1.27,1.905 ; -1.27,-1.905 -0.635,-2.54 0.635,-2.54 1.27,-1.905 ; -1.27,-1.905 -1.27,-0.635 ; -1.27,-0.635 -0.635,0 ; -1.27,0.635 -1.27,1.905 ; -1.27,0.635 -0.635,0 ; -1.27,1.905 -0.635,2.54 ; -0.635,0 0.635,0 ; -0.635,2.54 0.635,2.54 ; -0.635,2.54 0.635,2.54 ; 0.635,0 1.27,0.635 ; 0.635,0 1.27,-0.635 ; 0.635,2.54 1.27,1.905 ; 1.27,-1.905 1.905,-2.54 3.175,-2.54 3.81,-1.905 ; 1.27,-1.905 1.27,-0.635 ; 1.27,-0.635 1.905,0 ; 1.27,0.635 1.27,1.905 ; 1.27,0.635 1.905,0 ; 1.27,1.905 1.905,2.54 ; 1.905,0 3.175,0 ; 1.905,2.54 3.175,2.54 ; 1.905,2.54 3.175,2.54 ; 3.175,0 3.81,0.635 ; 3.175,0 3.81,-0.635 ; 3.175,2.54 3.81,1.905 ; 3.81,-1.905 4.445,-2.54 5.715,-2.54 6.35,-1.905 ; 3.81,-1.905 3.81,-0.635 ; 3.81,-0.635 4.445,0 ; 3.81,0.635 3.81,1.905 ; 3.81,0.635 4.445,0 ; 3.81,1.905 4.445,2.54 ; 4.445,0 5.715,0 ; 4.445,2.54 5.715,2.54 ; 4.445,2.54 5.715,2.54 ; 5.715,0 6.35,0.635 ; 5.715,0 6.35,-0.635 ; 5.715,2.54 6.35,1.905 ; 6.35,-1.905 6.35,-0.635 ; 6.35,-1.905 6.985,-2.54 8.255,-2.54 8.89,-1.905 ; 6.35,-0.635 6.985,0 ; 6.35,0.635 6.985,0 ; 6.35,0.635 6.35,1.905 ; 6.35,1.905 6.985,2.54 ; 6.985,0 8.255,0 ; 6.985,2.54 8.255,2.54 ; 6.985,2.54 8.255,2.54 ; 8.255,0 8.89,0.635 ; 8.255,0 8.89,-0.635 ; 8.255,2.54 8.89,1.905 ; 8.89,-1.905 9.525,-2.54 10.795,-2.54 11.43,-1.905 11.43,-0.635 10.795,0 ; 8.89,-1.905 8.89,-0.635 ; 8.89,-1.905 8.89,-0.635 ; 8.89,-0.635 9.525,0 ; 8.89,0.635 8.89,1.905 ; 8.89,0.635 9.525,0 ; 8.89,0.635 8.89,1.905 ; 8.89,1.905 9.525,2.54 ; 9.525,0 10.795,0 ; 9.525,2.54 10.795,2.54 ; 9.525,2.54 10.795,2.54 ; 10.795,0 11.43,0.635 11.43,1.905 10.795,2.54
Top Assy:
  lines w0.1: -10.795,0 -11.43,0.635 -11.43,1.905 -10.795,2.54 -9.525,2.54 -8.89,1.905 -8.255,2.54 -6.985,2.54 -6.35,1.905 ; -8.89,-1.905 -8.255,-2.54 -6.985,-2.54 -6.35,-1.905 ; -8.255,0 -8.89,0.635 -9.525,0 -11.43,0 -11.43,-2.54 -8.89,-2.54 -8.89,-0.635 -8.255,0 ; -8.255,0 -6.985,0 ; -6.985,0 -6.35,0.635 ; -6.985,0 -6.35,-0.635 ; -6.35,-1.905 -6.35,-0.635 ; -6.35,-1.905 -5.715,-2.54 -4.445,-2.54 -3.81,-1.905 ; -6.35,-0.635 -5.715,0 ; -6.35,0.635 -6.35,1.905 ; -6.35,0.635 -5.715,0 ; -6.35,1.905 -5.715,2.54 -4.445,2.54 -3.81,1.905 ; -5.715,0 -4.445,0 ; -4.445,0 -3.81,0.635 ; -4.445,0 -3.81,-0.635 ; -3.81,-1.905 -3.81,-0.635 ; -3.81,-1.905 -3.175,-2.54 -1.905,-2.54 -1.27,-1.905 ; -3.81,-0.635 -3.175,0 ; -3.81,0.635 -3.81,1.905 ; -3.81,0.635 -3.175,0 ; -3.81,1.905 -3.175,2.54 -1.905,2.54 -1.27,1.905 ; -3.175,0 -1.905,0 ; -1.905,0 -1.27,0.635 ; -1.905,0 -1.27,-0.635 ; -1.27,-1.905 -1.27,-0.635 ; -1.27,-1.905 -0.635,-2.54 0.635,-2.54 1.27,-1.905 ; -1.27,-0.635 -0.635,0 ; -1.27,0.635 -1.27,1.905 ; -1.27,0.635 -0.635,0 ; -1.27,1.905 -0.635,2.54 0.635,2.54 1.27,1.905 ; -0.635,0 0.635,0 ; 0.635,0 1.27,0.635 ; 0.635,0 1.27,-0.635 ; 1.27,-1.905 1.27,-0.635 ; 1.27,-1.905 1.905,-2.54 3.175,-2.54 3.81,-1.905 ; 1.27,-0.635 1.905,0 ; 1.27,0.635 1.27,1.905 ; 1.27,0.635 1.905,0 ; 1.27,1.905 1.905,2.54 3.175,2.54 3.81,1.905 ; 1.905,0 3.175,0 ; 3.175,0 3.81,0.635 ; 3.175,0 3.81,-0.635 ; 3.81,-1.905 3.81,-0.635 ; 3.81,-1.905 4.445,-2.54 5.715,-2.54 6.35,-1.905 ; 3.81,-0.635 4.445,0 ; 3.81,0.635 3.81,1.905 ; 3.81,0.635 4.445,0 ; 3.81,1.905 4.445,2.54 5.715,2.54 6.35,1.905 ; 4.445,0 5.715,0 ; 5.715,0 6.35,0.635 ; 5.715,0 6.35,-0.635 ; 6.35,-1.905 6.35,-0.635 ; 6.35,-1.905 6.985,-2.54 8.255,-2.54 8.89,-1.905 ; 6.35,-0.635 6.985,0 ; 6.35,0.635 6.35,1.905 ; 6.35,0.635 6.985,0 ; 6.35,1.905 6.985,2.54 8.255,2.54 8.89,1.905 ; 6.985,0 8.255,0 ; 8.255,0 8.89,0.635 ; 8.255,0 8.89,-0.635 ; 8.89,-1.905 8.89,-0.635 ; 8.89,-1.905 9.525,-2.54 10.795,-2.54 11.43,-1.905 11.43,-0.635 10.795,0 ; 8.89,-0.635 9.525,0 ; 8.89,0.635 8.89,1.905 ; 8.89,0.635 9.525,0 ; 8.89,1.905 9.525,2.54 10.795,2.54 11.43,1.905 11.43,0.635 10.795,0 ; 9.525,0 10.795,0
Size Area:
  lines w0.05: -11.43,-2.54 11.43,-2.54 11.43,2.54 -11.43,2.54 -11.43,-2.54
  lines w0.1: -0.5,0 0.5,0 ; 0,-0.5 0,0.5

## CON: PLD-20 [mm]
height 10
pads (20):
  rect 2x2 hole 1.1: 1(-11.43,-1.27)
  round 2 hole 1.1: 2(-11.43,1.27) 3(-8.89,-1.27) 4(-8.89,1.27) 5(-6.35,-1.27) 6(-6.35,1.27) 7(-3.81,-1.27) 8(-3.81,1.27) 9(-1.27,-1.27) 10(-1.27,1.27) 11(1.27,-1.27) 12(1.27,1.27) 13(3.81,-1.27) 14(3.81,1.27) 15(6.35,-1.27) 16(6.35,1.27) 17(8.89,-1.27) 18(8.89,1.27) 19(11.43,-1.27) 20(11.43,1.27)
Top Overlay:
  lines w0.2: -12.065,0 -12.7,0.635 -12.7,1.905 -12.065,2.54 ; -10.16,-1.905 -9.525,-2.54 -8.255,-2.54 -7.62,-1.905 ; -12.065,2.54 -10.795,2.54 ; -12.065,2.54 -10.795,2.54 ; -10.795,2.54 -10.16,1.905 ; -10.16,0.635 -10.16,1.905 ; -10.16,0.635 -10.795,0 -12.7,0 -12.7,-2.54 -10.16,-2.54 -10.16,-0.635 -9.525,0 ; -10.16,0.635 -9.525,0 ; -10.16,1.905 -9.525,2.54 ; -9.525,0 -8.255,0 ; -9.525,2.54 -8.255,2.54 ; -9.525,2.54 -8.255,2.54 ; -8.255,0 -7.62,0.635 ; -8.255,0 -7.62,-0.635 ; -8.255,2.54 -7.62,1.905 ; -7.62,-1.905 -6.985,-2.54 -5.715,-2.54 -5.08,-1.905 ; -7.62,-1.905 -7.62,-0.635 ; -7.62,-0.635 -6.985,0 ; -7.62,0.635 -7.62,1.905 ; -7.62,0.635 -6.985,0 ; -7.62,1.905 -6.985,2.54 ; -6.985,0 -5.715,0 ; -6.985,2.54 -5.715,2.54 ; -6.985,2.54 -5.715,2.54 ; -5.715,0 -5.08,0.635 ; -5.715,0 -5.08,-0.635 ; -5.715,2.54 -5.08,1.905 ; -5.08,-1.905 -4.445,-2.54 -3.175,-2.54 -2.54,-1.905 ; -5.08,-1.905 -5.08,-0.635 ; -5.08,-0.635 -4.445,0 ; -5.08,0.635 -5.08,1.905 ; -5.08,0.635 -4.445,0 ; -5.08,1.905 -4.445,2.54 ; -4.445,0 -3.175,0 ; -4.445,2.54 -3.175,2.54 ; -4.445,2.54 -3.175,2.54 ; -3.175,0 -2.54,0.635 ; -3.175,0 -2.54,-0.635 ; -3.175,2.54 -2.54,1.905 ; -2.54,-1.905 -1.905,-2.54 -0.635,-2.54 0,-1.905 ; -2.54,-1.905 -2.54,-0.635 ; -2.54,-0.635 -1.905,0 ; -2.54,0.635 -2.54,1.905 ; -2.54,0.635 -1.905,0 ; -2.54,1.905 -1.905,2.54 ; -1.905,0 -0.635,0 ; -1.905,2.54 -0.635,2.54 ; -1.905,2.54 -0.635,2.54 ; -0.635,0 0,0.635 ; -0.635,0 0,-0.635 ; -0.635,2.54 0,1.905 ; 0,-1.905 0.635,-2.54 1.905,-2.54 2.54,-1.905 ; 0,-1.905 0,-0.635 ; 0,-0.635 0.635,0 ; 0,0.635 0,1.905 ; 0,0.635 0.635,0 ; 0,1.905 0.635,2.54 ; 0.635,0 1.905,0 ; 0.635,2.54 1.905,2.54 ; 0.635,2.54 1.905,2.54 ; 1.905,0 2.54,0.635 ; 1.905,0 2.54,-0.635 ; 1.905,2.54 2.54,1.905 ; 2.54,-1.905 3.175,-2.54 4.445,-2.54 5.08,-1.905 ; 2.54,-1.905 2.54,-0.635 ; 2.54,-0.635 3.175,0 ; 2.54,0.635 2.54,1.905 ; 2.54,0.635 3.175,0 ; 2.54,1.905 3.175,2.54 ; 3.175,0 4.445,0 ; 3.175,2.54 4.445,2.54 ; 3.175,2.54 4.445,2.54 ; 4.445,0 5.08,0.635 ; 4.445,0 5.08,-0.635 ; 4.445,2.54 5.08,1.905 ; 5.08,-1.905 5.08,-0.635 ; 5.08,-1.905 5.715,-2.54 6.985,-2.54 7.62,-1.905 ; 5.08,-0.635 5.715,0 ; 5.08,0.635 5.715,0 ; 5.08,0.635 5.08,1.905 ; 5.08,1.905 5.715,2.54 ; 5.715,0 6.985,0 ; 5.715,2.54 6.985,2.54 ; 5.715,2.54 6.985,2.54 ; 6.985,0 7.62,0.635 ; 6.985,0 7.62,-0.635 ; 6.985,2.54 7.62,1.905 ; 7.62,-1.905 8.255,-2.54 9.525,-2.54 10.16,-1.905 ; 7.62,-1.905 7.62,-0.635 ; 7.62,-1.905 7.62,-0.635 ; 7.62,-0.635 8.255,0 ; 7.62,0.635 7.62,1.905 ; 7.62,0.635 8.255,0 ; 7.62,0.635 7.62,1.905 ; 7.62,1.905 8.255,2.54 ; 8.255,0 9.525,0 ; 8.255,2.54 9.525,2.54 ; 8.255,2.54 9.525,2.54 ; 9.525,0 10.16,-0.635 ; 9.525,0 10.16,0.635 ; 9.525,2.54 10.16,1.905 ; 10.16,-1.905 10.16,-0.635 ; 10.16,-1.905 10.16,-0.635 ; 10.16,-1.905 10.795,-2.54 12.065,-2.54 12.7,-1.905 12.7,-0.635 12.065,0 ; 10.16,-1.905 10.16,-0.635 ; 10.16,-0.635 10.795,0 ; 10.16,0.635 10.16,1.905 ; 10.16,0.635 10.795,0 ; 10.16,0.635 10.16,1.905 ; 10.16,0.635 10.16,1.905 ; 10.16,1.905 10.795,2.54 ; 10.795,0 12.065,0 ; 10.795,2.54 12.065,2.54 ; 10.795,2.54 12.065,2.54 ; 12.065,0 12.7,0.635 12.7,1.905 12.065,2.54
Top Assy:
  lines w0.1: -12.065,0 -12.7,0.635 -12.7,1.905 -12.065,2.54 -10.795,2.54 -10.16,1.905 -9.525,2.54 -8.255,2.54 -7.62,1.905 ; -10.16,-1.905 -9.525,-2.54 -8.255,-2.54 -7.62,-1.905 ; -9.525,0 -8.255,0 ; -9.525,0 -10.16,0.635 -10.795,0 -12.7,0 -12.7,-2.54 -10.16,-2.54 -10.16,-0.635 -9.525,0 ; -8.255,0 -7.62,0.635 ; -8.255,0 -7.62,-0.635 ; -7.62,-1.905 -7.62,-0.635 ; -7.62,-1.905 -6.985,-2.54 -5.715,-2.54 -5.08,-1.905 ; -7.62,-0.635 -6.985,0 ; -7.62,0.635 -7.62,1.905 ; -7.62,0.635 -6.985,0 ; -7.62,1.905 -6.985,2.54 -5.715,2.54 -5.08,1.905 ; -6.985,0 -5.715,0 ; -5.715,0 -5.08,0.635 ; -5.715,0 -5.08,-0.635 ; -5.08,-1.905 -5.08,-0.635 ; -5.08,-1.905 -4.445,-2.54 -3.175,-2.54 -2.54,-1.905 ; -5.08,-0.635 -4.445,0 ; -5.08,0.635 -5.08,1.905 ; -5.08,0.635 -4.445,0 ; -5.08,1.905 -4.445,2.54 -3.175,2.54 -2.54,1.905 ; -4.445,0 -3.175,0 ; -3.175,0 -2.54,0.635 ; -3.175,0 -2.54,-0.635 ; -2.54,-1.905 -2.54,-0.635 ; -2.54,-1.905 -1.905,-2.54 -0.635,-2.54 0,-1.905 ; -2.54,-0.635 -1.905,0 ; -2.54,0.635 -2.54,1.905 ; -2.54,0.635 -1.905,0 ; -2.54,1.905 -1.905,2.54 -0.635,2.54 0,1.905 ; -1.905,0 -0.635,0 ; -0.635,0 0,0.635 ; -0.635,0 0,-0.635 ; 0,-1.905 0,-0.635 ; 0,-1.905 0.635,-2.54 1.905,-2.54 2.54,-1.905 ; 0,-0.635 0.635,0 ; 0,0.635 0,1.905 ; 0,0.635 0.635,0 ; 0,1.905 0.635,2.54 1.905,2.54 2.54,1.905 ; 0.635,0 1.905,0 ; 1.905,0 2.54,0.635 ; 1.905,0 2.54,-0.635 ; 2.54,-1.905 2.54,-0.635 ; 2.54,-1.905 3.175,-2.54 4.445,-2.54 5.08,-1.905 ; 2.54,-0.635 3.175,0 ; 2.54,0.635 2.54,1.905 ; 2.54,0.635 3.175,0 ; 2.54,1.905 3.175,2.54 4.445,2.54 5.08,1.905 ; 3.175,0 4.445,0 ; 4.445,0 5.08,0.635 ; 4.445,0 5.08,-0.635 ; 5.08,-1.905 5.08,-0.635 ; 5.08,-1.905 5.715,-2.54 6.985,-2.54 7.62,-1.905 ; 5.08,-0.635 5.715,0 ; 5.08,0.635 5.08,1.905 ; 5.08,0.635 5.715,0 ; 5.08,1.905 5.715,2.54 6.985,2.54 7.62,1.905 ; 5.715,0 6.985,0 ; 6.985,0 7.62,0.635 ; 6.985,0 7.62,-0.635 ; 7.62,-1.905 7.62,-0.635 ; 7.62,-1.905 8.255,-2.54 9.525,-2.54 10.16,-1.905 ; 7.62,-0.635 8.255,0 ; 7.62,0.635 7.62,1.905 ; 7.62,0.635 8.255,0 ; 7.62,1.905 8.255,2.54 9.525,2.54 10.16,1.905 ; 8.255,0 9.525,0 ; 9.525,0 10.16,0.635 ; 9.525,0 10.16,-0.635 ; 10.16,-1.905 10.16,-0.635 ; 10.16,-1.905 10.795,-2.54 12.065,-2.54 12.7,-1.905 12.7,-0.635 12.065,0 ; 10.16,-0.635 10.795,0 ; 10.16,0.635 10.16,1.905 ; 10.16,0.635 10.795,0 ; 10.16,1.905 10.795,2.54 12.065,2.54 12.7,1.905 12.7,0.635 12.065,0 ; 10.795,0 12.065,0
Size Area:
  lines w0.05: -12.7,-2.54 12.7,-2.54 12.7,2.54 -12.7,2.54 -12.7,-2.54
  lines w0.1: -0.5,0 0.5,0 ; 0,-0.5 0,0.5
3D body "PLD-20.STEP": height 8.54, standoff -3, extent -12.752,-2.546 12.648,2.534

## CON: PLD-24 [mm]
height 10
pads (24):
  rect 2x2 hole 1.1: 1(-13.97,-1.27)
  round 2 hole 1.1: 2(-13.97,1.27) 3(-11.43,-1.27) 4(-11.43,1.27) 5(-8.89,-1.27) 6(-8.89,1.27) 7(-6.35,-1.27) 8(-6.35,1.27) 9(-3.81,-1.27) 10(-3.81,1.27) 11(-1.27,-1.27) 12(-1.27,1.27) 13(1.27,-1.27) 14(1.27,1.27) 15(3.81,-1.27) 16(3.81,1.27) 17(6.35,-1.27) 18(6.35,1.27) 19(8.89,-1.27) 20(8.89,1.27) 21(11.43,-1.27) 22(11.43,1.27) 23(13.97,-1.27) 24(13.97,1.27)
Top Overlay:
  drawing of 180 lines, arcs and shapes, not listed
Top Assy:
  drawing of 153 lines, arcs and shapes, not listed
Size Area:
  lines w0.05: -15.24,-2.54 -15.24,2.54 15.24,2.54 15.24,-2.54 -15.24,-2.54
  lines w0.1: -0.5,0 0.5,0 ; 0,-0.5 0,0.5
3D body "PLD-24.STEP": height 8.54, standoff -3, extent -15.292,-2.546 15.188,2.534

## CON: PLD-26 [mm]
height 10
pads (26):
  rect 2x2 hole 1.1: 1(-15.24,-1.27)
  round 2 hole 1.1: 2(-15.24,1.27) 3(-12.7,-1.27) 4(-12.7,1.27) 5(-10.16,-1.27) 6(-10.16,1.27) 7(-7.62,-1.27) 8(-7.62,1.27) 9(-5.08,-1.27) 10(-5.08,1.27) 11(-2.54,-1.27) 12(-2.54,1.27) 13(0,-1.27) 14(0,1.27) 15(2.54,-1.27) 16(2.54,1.27) 17(5.08,-1.27) 18(5.08,1.27) 19(7.62,-1.27) 20(7.62,1.27) 21(10.16,-1.27) 22(10.16,1.27) 23(12.7,-1.27) 24(12.7,1.27) 25(15.24,-1.27) 26(15.24,1.27)
Top Overlay:
  drawing of 194 lines, arcs and shapes, not listed
Top Assy:
  drawing of 166 lines, arcs and shapes, not listed
Size Area:
  lines w0.05: -16.51,-2.54 -16.51,2.54 16.51,2.54 16.51,-2.54 -16.51,-2.54
  lines w0.1: -0.5,0 0.5,0 ; 0,-0.5 0,0.5
3D body "PLD-26.STEP": height 8.54, standoff -3, extent -16.51,-2.54 16.51,2.54

## CON: PLD-40 (2.00) [mm]
height 10
pads (40):
  round 1.6 hole 0.9: 1(0,0) 2(0,2) 3(2,0) 4(2,2) 5(4,0) 6(4,2) 7(6,0) 8(6,2) 9(8,0) 10(8,2) 11(10,0) 12(10,2) 13(12,0) 14(12,2) 15(14,0) 16(14,2) 17(16,0) 18(16,2) 19(18,0) 20(18,2) 21(20,0) 22(20,2) 23(22,0) 24(22,2) 25(24,0) 26(24,2) 27(26,0) 28(26,2) 29(28,0) 30(28,2) 31(30,0) 32(30,2) 33(32,0) 34(32,2) 35(34,0) 36(34,2) 37(36,0) 38(36,2) 39(38,0) 40(38,2)
Top Overlay:
  region: -0.3,-1 -1,-0.3 -1,-1
  lines w0.2: -1,-1 39,-1 39,3 -1,3 -1,-1
Top Assy:
  region: -0.3,-1 -1,-0.3 -1,-1
  lines w0.1: -1,-1 39,-1 39,3 -1,3 -1,-1
Size Area:
  lines w0.1: -1,-1 39,-1 39,3 -1,3 -1,-1
3D body "PLD-20-2.00.STEP": height 6.08, standoff -2.72, extent -1,-1 39,3

## CON: PLLD-8 [mm]
pads (12):
  rect 0.8x2.4 smd: 1(-1.905,1.95) 2(-0.635,1.95) 3(0.635,1.95) 4(1.905,1.95) 5(-1.905,-1.95) 6(-0.635,-1.95) 7(0.635,-1.95) 8(1.905,-1.95)
  round 0.5 on Top Overlay: ""(-3.2,3)
  round 0.5 on Mech1: ""(-2.1,2)
  round 0 hole 1: ""(-1.27,0) ""(1.27,0)
Top Overlay:
  lines w0.2: -2.7,-3.4 -2.7,3.4 2.7,3.4 2.7,-3.4 -2.7,-3.4
Top Assy:
  lines w0.1: -2.54,-2.5 2.54,-2.5 2.54,2.5 -2.54,2.5 -2.54,-2.5
Size Area:
  lines w0.1: -0.5,0 0.4,0 0.5,0 ; 0,-0.5 0,0.5 ; -2.7,-3.4 2.7,-3.4 2.7,3.4 -2.7,3.4 -2.7,-3.4
3D body "User Library-PLLD1_27-xx-SPLLD1_27-8-S.STEP": height 3.9, standoff 0, extent -2.54,-2.5 2.54,2.5

## CON: PLS-2 [mm]
height 10
pads (2):
  rect 2x2 hole 1.1: 1(-1.27,0)
  round 2 hole 1.1: 2(1.27,0)
Top Overlay:
  lines w0.2: 0,-0.635 0.635,-1.27 1.905,-1.27 2.54,-0.635 2.54,0.635 1.905,1.27 0.635,1.27 0,0.635 ; -2.54,-1.27 -2.54,1.27 0,1.27 0,-1.27 -2.54,-1.27
Top Assy:
  lines w0.1: 0,-0.635 0.635,-1.27 1.905,-1.27 2.54,-0.635 2.54,0.635 1.905,1.27 0.635,1.27 0,0.635 ; -2.54,-1.27 0,-1.27 0,1.27 -2.54,1.27 -2.54,-1.27
Size Area:
  lines w0.05: -2.54,-1.27 2.54,-1.27 2.54,1.27 -2.54,1.27 -2.54,-1.27
  lines w0.1: -0.5,0 0.5,0 ; 0,-0.5 0,0.5
3D body "PLS-2.STEP": height 8.54, standoff -3, extent -2.573,-1.284 2.507,1.256

## CON: PLS-3 [mm]
height 10
pads (3):
  rect 2x2 hole 1.1: 1(-2.54,0)
  round 2 hole 1.1: 2(0,0) 3(2.54,0)
Top Overlay:
  lines w0.2: -1.27,-0.635 -0.635,-1.27 0.635,-1.27 1.27,-0.635 ; -1.27,0.635 -0.635,1.27 0.635,1.27 1.27,0.635 ; 1.27,-0.635 1.905,-1.27 3.175,-1.27 3.81,-0.635 3.81,0.635 3.175,1.27 1.905,1.27 1.27,0.635 ; 1.27,-0.635 1.27,0.635 ; -3.81,-1.27 -1.27,-1.27 -1.27,1.27 -3.81,1.27 -3.81,-1.27
Top Assy:
  lines w0.1: -1.27,-0.635 -0.635,-1.27 0.635,-1.27 1.27,-0.635 ; -1.27,0.635 -0.635,1.27 0.635,1.27 1.27,0.635 ; 1.27,-0.635 1.27,0.635 ; 1.27,-0.635 1.905,-1.27 3.175,-1.27 3.81,-0.635 3.81,0.635 3.175,1.27 1.905,1.27 1.27,0.635 ; -3.81,-1.27 -3.81,1.27 -1.27,1.27 -1.27,-1.27 -3.81,-1.27
Size Area:
  lines w0.05: -3.81,-1.27 -3.81,1.27 3.81,1.27 3.81,-1.27 -3.81,-1.27
  lines w0.1: -0.5,0 0.5,0 ; 0,-0.5 0,0.5
3D body "PLS-3.STEP": height 8.54, standoff -3, extent -3.81,-1.27 3.81,1.27